# EAGLE library part LEDDISPLAY4DIGIT (library _MyComponents)
My Components, 4 Digit LED Display
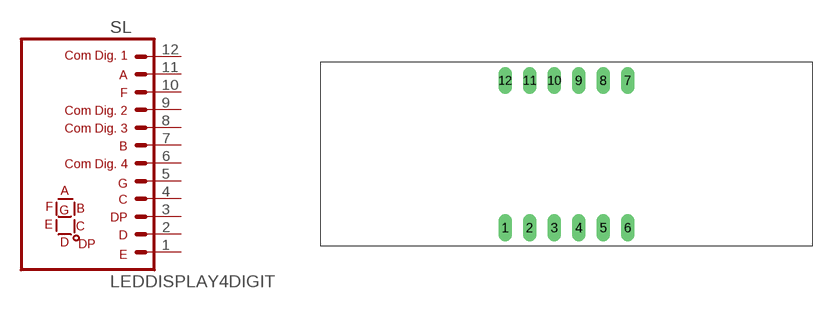
[diagram p0: symbol with the pads of 12P; footprint 12P]

Designator prefix SL

## LEDDISPLAY4DIGIT (OC_FARNELL: unknown; OC_NEWARK: unknown)  [12P]
1  1  pas
2  2  pas
3  3  pas
4  4  pas
5  5  pas
6  6  pas
7  7  pas
8  8  pas
9  9  pas
10  10  pas
11  11  pas
12  12  pas

## Footprint 12P (pad centres in mm)
AMP QUICK CONNECTOR
drill 0.914 long: 1 -6.35,-8.255; 2 -3.81,-8.255; 3 -1.27,-8.255; 4 1.27,-8.255; 5 3.81,-8.255; 6 6.35,-8.255; 7 6.35,6.985; 8 3.81,6.985; 9 1.27,6.985; 10 -1.27,6.985; 11 -3.81,6.985; 12 -6.35,6.985